# Altium integrated library Integrated_Library1b.IntLib: 1312 symbols (part 34 of 58)
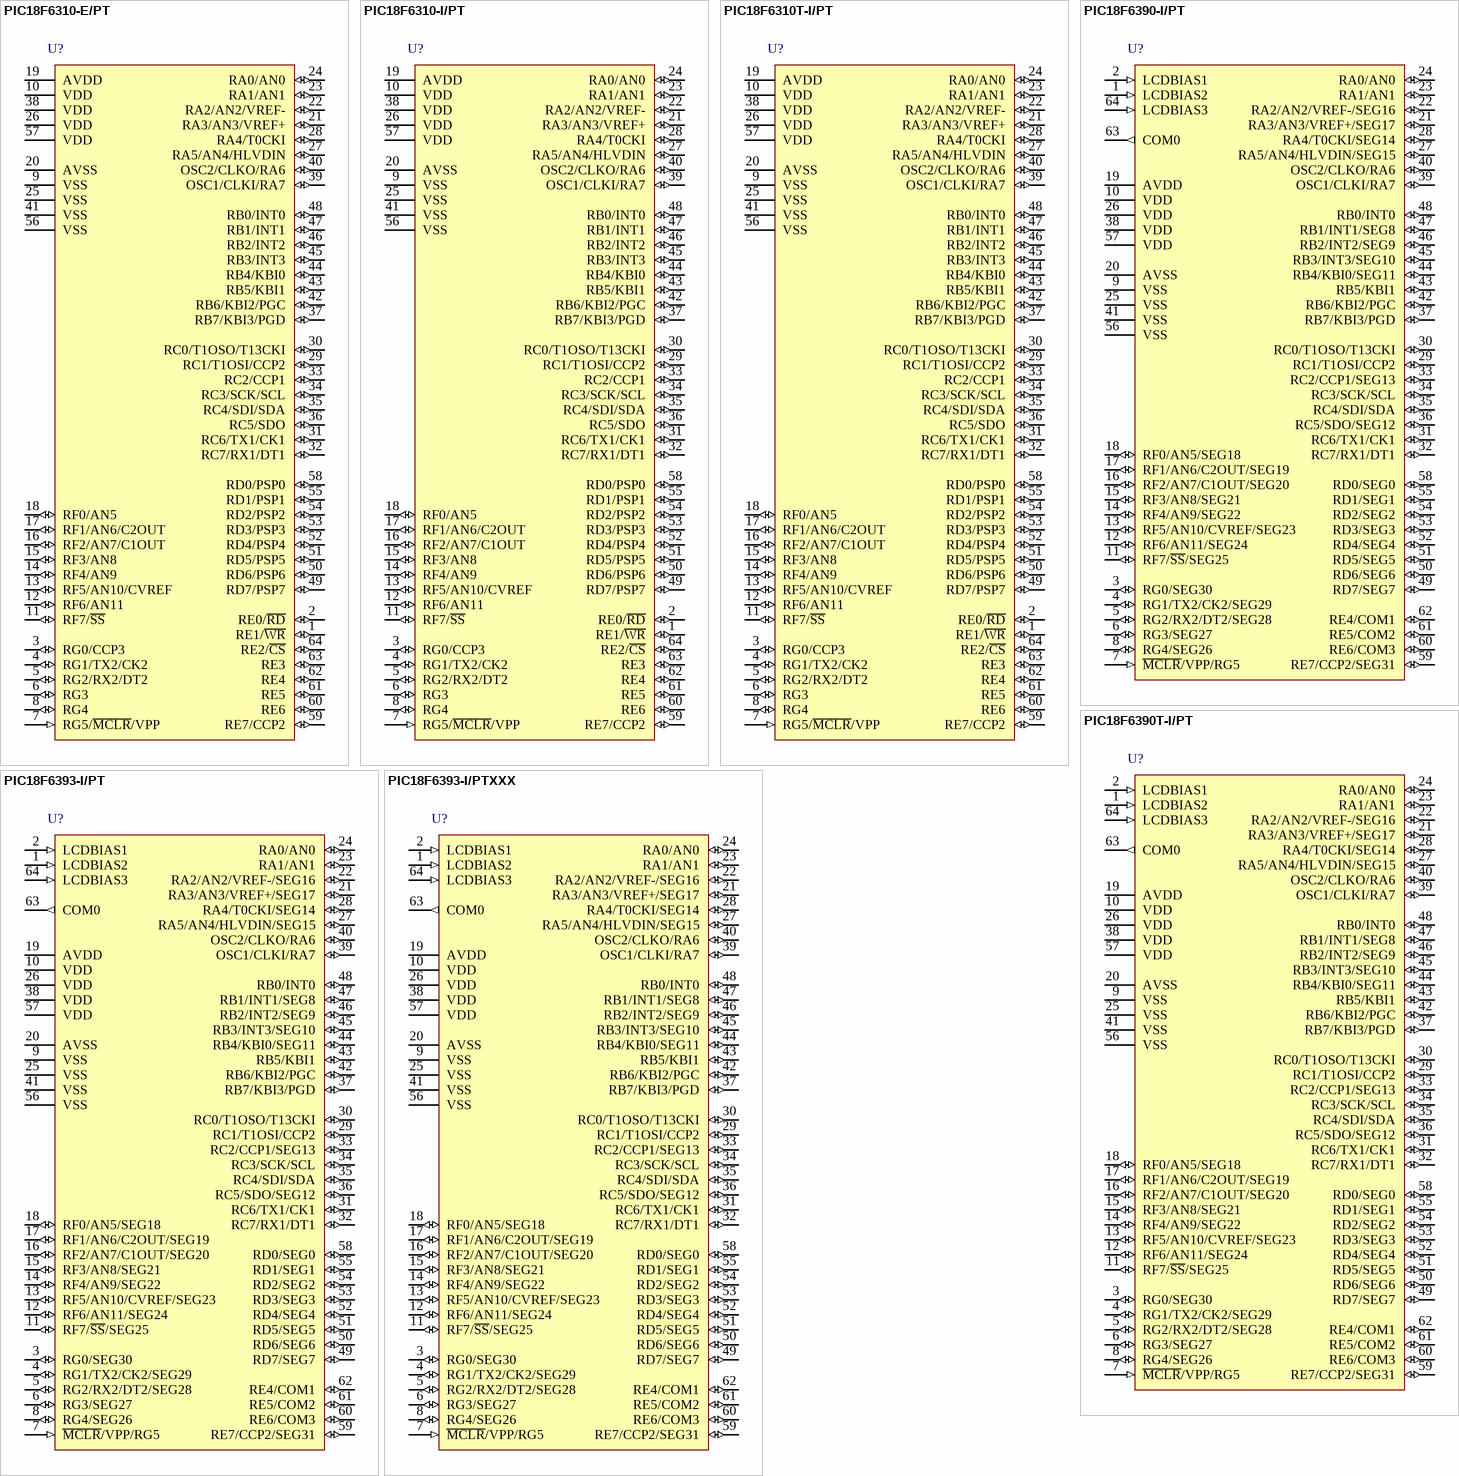
[diagram p182: symbols PIC18F6310-E/PT to PIC18F6393-I/PTXXX]

## PIC18F6310-E/PT
designator U?
Flash Microcontroller with nanoWatt Technology, 8K Flash, 64-Pin TQFP, Extended Temperature Range; FirstPublished: 29-Jan-2009; DatasheetVersion: revB, May-2007; PackageVersion: revBB, Aug-2009; PackageReference: TQFP-PT64; Publisher: Altium Limited; PackageDescription: 64-Lead Thin Plastic Quad Flat Pack (PT) - 10x10x1mm Body, 2.00mm [TQFP]; Supplier 1: Digi-Key; Supplier Part Number 1: PIC18F6310-E/PT-ND; Supplier 2: Newark; Supplier Part Number 2: 08J9636; Code_JEDEC: MS-026; ComponentLink1Description: Datasheet; ComponentLink1URL: http://ww1.microchip.com/downloads/en/DeviceDoc/39635b.pdf; ComponentLink2Description: Packaging Specification; ComponentLink2URL: http://www.microchip.com/stellent/groups/techpub_sg/documents/packagingspec/en012702.pdf; ComponentLink3Description: Microchip.com Home; ComponentLink3URL: http://www.microchip.com/
footprint TQFP-PT64_N (Thin QFP, 64-Leads, Body 10x10mm, Pitch 0.5mm, IPC Medium Density)
footprint TQFP-PT64_L (Thin QFP, 64-Leads, Body 10x10mm, Pitch 0.5mm, IPC High Density)
footprint TQFP-PT64_M (Thin QFP, 64-Leads, Body 10x10mm, Pitch 0.5mm, IPC Low Density)
pins: 1 RE1/~{WR} (io), 2 RE0/~{RD} (io), 3 RG0/CCP3 (io), 4 RG1/TX2/CK2 (io), 5 RG2/RX2/DT2 (io), 6 RG3 (io), 7 RG5/~{MCLR}/VPP (in), 8 RG4 (io), 9 VSS (power), 10 VDD (power), 11 RF7/~{SS} (io), 12 RF6/AN11 (io), 13 RF5/AN10/CVREF (io), 14 RF4/AN9 (io), 15 RF3/AN8 (io), 16 RF2/AN7/C1OUT (io), 17 RF1/AN6/C2OUT (io), 18 RF0/AN5 (io), 19 AVDD (power), 20 AVSS (power), 21 RA3/AN3/VREF+ (io), 22 RA2/AN2/VREF- (io), 23 RA1/AN1 (io), 24 RA0/AN0 (io), 25 VSS (power), 26 VDD (power), 27 RA5/AN4/HLVDIN (io), 28 RA4/T0CKI (io), 29 RC1/T1OSI/CCP2 (io), 30 RC0/T1OSO/T13CKI (io), 31 RC6/TX1/CK1 (io), 32 RC7/RX1/DT1 (io), 33 RC2/CCP1 (io), 34 RC3/SCK/SCL (io), 35 RC4/SDI/SDA (io), 36 RC5/SDO (io), 37 RB7/KBI3/PGD (io), 38 VDD (power), 39 OSC1/CLKI/RA7 (io), 40 OSC2/CLKO/RA6 (io), 41 VSS (power), 42 RB6/KBI2/PGC (io), 43 RB5/KBI1 (io), 44 RB4/KBI0 (io), 45 RB3/INT3 (io), 46 RB2/INT2 (io), 47 RB1/INT1 (io), 48 RB0/INT0 (io), 49 RD7/PSP7 (io), 50 RD6/PSP6 (io), 51 RD5/PSP5 (io), 52 RD4/PSP4 (io), 53 RD3/PSP3 (io), 54 RD2/PSP2 (io), 55 RD1/PSP1 (io), 56 VSS (power), 57 VDD (power), 58 RD0/PSP0 (io), 59 RE7/CCP2 (io), 60 RE6 (io), 61 RE5 (io), 62 RE4 (io), 63 RE3 (io), 64 RE2/~{CS} (io)

## PIC18F6310-I/PT
designator U?
Flash Microcontroller with nanoWatt Technology, 8K Flash, 64-Pin TQFP, Industrial Temperature Range; FirstPublished: 29-Jan-2009; DatasheetVersion: revB, May-2007; PackageVersion: revBB, Aug-2009; PackageReference: TQFP-PT64; Publisher: Altium Limited; PackageDescription: 64-Lead Thin Plastic Quad Flat Pack (PT) - 10x10x1mm Body, 2.00mm [TQFP]; Supplier 1: Digi-Key; Supplier Part Number 1: PIC18F6310-I/PT-ND; Supplier 2: Farnell; Supplier Part Number 2: 1332276; Supplier 3: Newark; Supplier Part Number 3: 08J9637; Code_JEDEC: MS-026; ComponentLink1Description: Datasheet; ComponentLink1URL: http://ww1.microchip.com/downloads/en/DeviceDoc/39635b.pdf; ComponentLink2Description: Packaging Specification; ComponentLink2URL: http://www.microchip.com/stellent/groups/techpub_sg/documents/packagingspec/en012702.pdf; ComponentLink3Description: Microchip.com Home; ComponentLink3URL: http://www.microchip.com/
footprint TQFP-PT64_N (Thin QFP, 64-Leads, Body 10x10mm, Pitch 0.5mm, IPC Medium Density)
footprint TQFP-PT64_L (Thin QFP, 64-Leads, Body 10x10mm, Pitch 0.5mm, IPC High Density)
footprint TQFP-PT64_M (Thin QFP, 64-Leads, Body 10x10mm, Pitch 0.5mm, IPC Low Density)
pins: 1 RE1/~{WR} (io), 2 RE0/~{RD} (io), 3 RG0/CCP3 (io), 4 RG1/TX2/CK2 (io), 5 RG2/RX2/DT2 (io), 6 RG3 (io), 7 RG5/~{MCLR}/VPP (in), 8 RG4 (io), 9 VSS (power), 10 VDD (power), 11 RF7/~{SS} (io), 12 RF6/AN11 (io), 13 RF5/AN10/CVREF (io), 14 RF4/AN9 (io), 15 RF3/AN8 (io), 16 RF2/AN7/C1OUT (io), 17 RF1/AN6/C2OUT (io), 18 RF0/AN5 (io), 19 AVDD (power), 20 AVSS (power), 21 RA3/AN3/VREF+ (io), 22 RA2/AN2/VREF- (io), 23 RA1/AN1 (io), 24 RA0/AN0 (io), 25 VSS (power), 26 VDD (power), 27 RA5/AN4/HLVDIN (io), 28 RA4/T0CKI (io), 29 RC1/T1OSI/CCP2 (io), 30 RC0/T1OSO/T13CKI (io), 31 RC6/TX1/CK1 (io), 32 RC7/RX1/DT1 (io), 33 RC2/CCP1 (io), 34 RC3/SCK/SCL (io), 35 RC4/SDI/SDA (io), 36 RC5/SDO (io), 37 RB7/KBI3/PGD (io), 38 VDD (power), 39 OSC1/CLKI/RA7 (io), 40 OSC2/CLKO/RA6 (io), 41 VSS (power), 42 RB6/KBI2/PGC (io), 43 RB5/KBI1 (io), 44 RB4/KBI0 (io), 45 RB3/INT3 (io), 46 RB2/INT2 (io), 47 RB1/INT1 (io), 48 RB0/INT0 (io), 49 RD7/PSP7 (io), 50 RD6/PSP6 (io), 51 RD5/PSP5 (io), 52 RD4/PSP4 (io), 53 RD3/PSP3 (io), 54 RD2/PSP2 (io), 55 RD1/PSP1 (io), 56 VSS (power), 57 VDD (power), 58 RD0/PSP0 (io), 59 RE7/CCP2 (io), 60 RE6 (io), 61 RE5 (io), 62 RE4 (io), 63 RE3 (io), 64 RE2/~{CS} (io)

## PIC18F6310T-I/PT
designator U?
Flash Microcontroller with nanoWatt Technology, 8K Flash, 64-Pin TQFP, Industrial Temperature Range, Tape and Reel; FirstPublished: 29-Jan-2009; DatasheetVersion: revB, May-2007; PackageVersion: revBB, Aug-2009; PackageReference: TQFP-PT64; Publisher: Altium Limited; PackageDescription: 64-Lead Thin Plastic Quad Flat Pack (PT) - 10x10x1mm Body, 2.00mm [TQFP]; Supplier 1: Digi-Key; Supplier Part Number 1: PIC18F6310T-I/PT-ND; Supplier 2: Newark; Supplier Part Number 2: 08J9638; Code_JEDEC: MS-026; ComponentLink1Description: Datasheet; ComponentLink1URL: http://ww1.microchip.com/downloads/en/DeviceDoc/39635b.pdf; ComponentLink2Description: Packaging Specification; ComponentLink2URL: http://www.microchip.com/stellent/groups/techpub_sg/documents/packagingspec/en012702.pdf; ComponentLink3Description: Microchip.com Home; ComponentLink3URL: http://www.microchip.com/
footprint TQFP-PT64_N (Thin QFP, 64-Leads, Body 10x10mm, Pitch 0.5mm, IPC Medium Density)
footprint TQFP-PT64_L (Thin QFP, 64-Leads, Body 10x10mm, Pitch 0.5mm, IPC High Density)
footprint TQFP-PT64_M (Thin QFP, 64-Leads, Body 10x10mm, Pitch 0.5mm, IPC Low Density)
pins: 1 RE1/~{WR} (io), 2 RE0/~{RD} (io), 3 RG0/CCP3 (io), 4 RG1/TX2/CK2 (io), 5 RG2/RX2/DT2 (io), 6 RG3 (io), 7 RG5/~{MCLR}/VPP (in), 8 RG4 (io), 9 VSS (power), 10 VDD (power), 11 RF7/~{SS} (io), 12 RF6/AN11 (io), 13 RF5/AN10/CVREF (io), 14 RF4/AN9 (io), 15 RF3/AN8 (io), 16 RF2/AN7/C1OUT (io), 17 RF1/AN6/C2OUT (io), 18 RF0/AN5 (io), 19 AVDD (power), 20 AVSS (power), 21 RA3/AN3/VREF+ (io), 22 RA2/AN2/VREF- (io), 23 RA1/AN1 (io), 24 RA0/AN0 (io), 25 VSS (power), 26 VDD (power), 27 RA5/AN4/HLVDIN (io), 28 RA4/T0CKI (io), 29 RC1/T1OSI/CCP2 (io), 30 RC0/T1OSO/T13CKI (io), 31 RC6/TX1/CK1 (io), 32 RC7/RX1/DT1 (io), 33 RC2/CCP1 (io), 34 RC3/SCK/SCL (io), 35 RC4/SDI/SDA (io), 36 RC5/SDO (io), 37 RB7/KBI3/PGD (io), 38 VDD (power), 39 OSC1/CLKI/RA7 (io), 40 OSC2/CLKO/RA6 (io), 41 VSS (power), 42 RB6/KBI2/PGC (io), 43 RB5/KBI1 (io), 44 RB4/KBI0 (io), 45 RB3/INT3 (io), 46 RB2/INT2 (io), 47 RB1/INT1 (io), 48 RB0/INT0 (io), 49 RD7/PSP7 (io), 50 RD6/PSP6 (io), 51 RD5/PSP5 (io), 52 RD4/PSP4 (io), 53 RD3/PSP3 (io), 54 RD2/PSP2 (io), 55 RD1/PSP1 (io), 56 VSS (power), 57 VDD (power), 58 RD0/PSP0 (io), 59 RE7/CCP2 (io), 60 RE6 (io), 61 RE5 (io), 62 RE4 (io), 63 RE3 (io), 64 RE2/~{CS} (io)

## PIC18F6390-I/PT
designator U?
Flash Microcontroller with LCD Driver and nanoWatt Technology, 8K Flash, 64-Pin TQFP, Industrial Temperature Range; FirstPublished: 29-Jan-2009; DatasheetVersion: revC, Nov-2007; PackageVersion: revBB, Aug-2009; PackageReference: TQFP-PT64; Publisher: Altium Limited; PackageDescription: 64-Lead Thin Plastic Quad Flat Pack (PT) - 10x10x1mm Body, 2.00mm [TQFP]; Supplier 1: Digi-Key; Supplier Part Number 1: PIC18F6390-I/PT-ND; Supplier 2: Farnell; Supplier Part Number 2: 1332277; Supplier 3: Newark; Supplier Part Number 3: 08J9640; Code_JEDEC: MS-026; ComponentLink1Description: Datasheet; ComponentLink1URL: http://ww1.microchip.com/downloads/en/DeviceDoc/39629c.pdf; ComponentLink2Description: Packaging Specification; ComponentLink2URL: http://www.microchip.com/stellent/groups/techpub_sg/documents/packagingspec/en012702.pdf; ComponentLink3Description: Microchip.com Home; ComponentLink3URL: http://www.microchip.com/
footprint TQFP-PT64_N (Thin QFP, 64-Leads, Body 10x10mm, Pitch 0.5mm, IPC Medium Density)
footprint TQFP-PT64_L (Thin QFP, 64-Leads, Body 10x10mm, Pitch 0.5mm, IPC High Density)
footprint TQFP-PT64_M (Thin QFP, 64-Leads, Body 10x10mm, Pitch 0.5mm, IPC Low Density)
pins: 1 LCDBIAS2 (in), 2 LCDBIAS1 (in), 3 RG0/SEG30 (io), 4 RG1/TX2/CK2/SEG29 (io), 5 RG2/RX2/DT2/SEG28 (io), 6 RG3/SEG27 (io), 7 ~{MCLR}/VPP/RG5 (in), 8 RG4/SEG26 (io), 9 VSS (power), 10 VDD (power), 11 RF7/~{SS}/SEG25 (io), 12 RF6/AN11/SEG24 (io), 13 RF5/AN10/CVREF/SEG23 (io), 14 RF4/AN9/SEG22 (io), 15 RF3/AN8/SEG21 (io), 16 RF2/AN7/C1OUT/SEG20 (io), 17 RF1/AN6/C2OUT/SEG19 (io), 18 RF0/AN5/SEG18 (io), 19 AVDD (power), 20 AVSS (power), 21 RA3/AN3/VREF+/SEG17 (io), 22 RA2/AN2/VREF-/SEG16 (io), 23 RA1/AN1 (io), 24 RA0/AN0 (io), 25 VSS (power), 26 VDD (power), 27 RA5/AN4/HLVDIN/SEG15 (io), 28 RA4/T0CKI/SEG14 (io), 29 RC1/T1OSI/CCP2 (io), 30 RC0/T1OSO/T13CKI (io), 31 RC6/TX1/CK1 (io), 32 RC7/RX1/DT1 (io), 33 RC2/CCP1/SEG13 (io), 34 RC3/SCK/SCL (io), 35 RC4/SDI/SDA (io), 36 RC5/SDO/SEG12 (io), 37 RB7/KBI3/PGD (io), 38 VDD (power), 39 OSC1/CLKI/RA7 (io), 40 OSC2/CLKO/RA6 (io), 41 VSS (power), 42 RB6/KBI2/PGC (io), 43 RB5/KBI1 (io), 44 RB4/KBI0/SEG11 (io), 45 RB3/INT3/SEG10 (io), 46 RB2/INT2/SEG9 (io), 47 RB1/INT1/SEG8 (io), 48 RB0/INT0 (io), 49 RD7/SEG7 (io), 50 RD6/SEG6 (io), 51 RD5/SEG5 (io), 52 RD4/SEG4 (io), 53 RD3/SEG3 (io), 54 RD2/SEG2 (io), 55 RD1/SEG1 (io), 56 VSS (power), 57 VDD (power), 58 RD0/SEG0 (io), 59 RE7/CCP2/SEG31 (io), 60 RE6/COM3 (io), 61 RE5/COM2 (io), 62 RE4/COM1 (io), 63 COM0 (out), 64 LCDBIAS3 (in)

## PIC18F6390T-I/PT
designator U?
Flash Microcontroller with LCD Driver and nanoWatt Technology, 8K Flash, 64-Pin TQFP, Industrial Temperature Range, Tape and Reel; FirstPublished: 29-Jan-2009; DatasheetVersion: revC, Nov-2007; PackageVersion: revBB, Aug-2009; PackageReference: TQFP-PT64; Publisher: Altium Limited; PackageDescription: 64-Lead Thin Plastic Quad Flat Pack (PT) - 10x10x1mm Body, 2.00mm [TQFP]; Supplier 1: Digi-Key; Supplier Part Number 1: PIC18F6390T-I/PT-ND; Supplier 2: Newark; Supplier Part Number 2: 08J9641; Code_JEDEC: MS-026; ComponentLink1Description: Datasheet; ComponentLink1URL: http://ww1.microchip.com/downloads/en/DeviceDoc/39629c.pdf; ComponentLink2Description: Packaging Specification; ComponentLink2URL: http://www.microchip.com/stellent/groups/techpub_sg/documents/packagingspec/en012702.pdf; ComponentLink3Description: Microchip.com Home; ComponentLink3URL: http://www.microchip.com/
footprint TQFP-PT64_N (Thin QFP, 64-Leads, Body 10x10mm, Pitch 0.5mm, IPC Medium Density)
footprint TQFP-PT64_L (Thin QFP, 64-Leads, Body 10x10mm, Pitch 0.5mm, IPC High Density)
footprint TQFP-PT64_M (Thin QFP, 64-Leads, Body 10x10mm, Pitch 0.5mm, IPC Low Density)
pins: 1 LCDBIAS2 (in), 2 LCDBIAS1 (in), 3 RG0/SEG30 (io), 4 RG1/TX2/CK2/SEG29 (io), 5 RG2/RX2/DT2/SEG28 (io), 6 RG3/SEG27 (io), 7 ~{MCLR}/VPP/RG5 (in), 8 RG4/SEG26 (io), 9 VSS (power), 10 VDD (power), 11 RF7/~{SS}/SEG25 (io), 12 RF6/AN11/SEG24 (io), 13 RF5/AN10/CVREF/SEG23 (io), 14 RF4/AN9/SEG22 (io), 15 RF3/AN8/SEG21 (io), 16 RF2/AN7/C1OUT/SEG20 (io), 17 RF1/AN6/C2OUT/SEG19 (io), 18 RF0/AN5/SEG18 (io), 19 AVDD (power), 20 AVSS (power), 21 RA3/AN3/VREF+/SEG17 (io), 22 RA2/AN2/VREF-/SEG16 (io), 23 RA1/AN1 (io), 24 RA0/AN0 (io), 25 VSS (power), 26 VDD (power), 27 RA5/AN4/HLVDIN/SEG15 (io), 28 RA4/T0CKI/SEG14 (io), 29 RC1/T1OSI/CCP2 (io), 30 RC0/T1OSO/T13CKI (io), 31 RC6/TX1/CK1 (io), 32 RC7/RX1/DT1 (io), 33 RC2/CCP1/SEG13 (io), 34 RC3/SCK/SCL (io), 35 RC4/SDI/SDA (io), 36 RC5/SDO/SEG12 (io), 37 RB7/KBI3/PGD (io), 38 VDD (power), 39 OSC1/CLKI/RA7 (io), 40 OSC2/CLKO/RA6 (io), 41 VSS (power), 42 RB6/KBI2/PGC (io), 43 RB5/KBI1 (io), 44 RB4/KBI0/SEG11 (io), 45 RB3/INT3/SEG10 (io), 46 RB2/INT2/SEG9 (io), 47 RB1/INT1/SEG8 (io), 48 RB0/INT0 (io), 49 RD7/SEG7 (io), 50 RD6/SEG6 (io), 51 RD5/SEG5 (io), 52 RD4/SEG4 (io), 53 RD3/SEG3 (io), 54 RD2/SEG2 (io), 55 RD1/SEG1 (io), 56 VSS (power), 57 VDD (power), 58 RD0/SEG0 (io), 59 RE7/CCP2/SEG31 (io), 60 RE6/COM3 (io), 61 RE5/COM2 (io), 62 RE4/COM1 (io), 63 COM0 (out), 64 LCDBIAS3 (in)

## PIC18F6393-I/PT
designator U?
High Performance, Flash Microcontroller with LCD Driver, 12-Bit ADC and nanoWatt Technology, 8K Flash, 64-Pin TQFP, Industrial Temperature Range; FirstPublished: 29-Jan-2009; LatestRevisionDate: 02-Dec-2009; LatestRevisionNote: Updated to datasheet revision B, Oct-2009; DatasheetVersion: revB, Oct-2009; PackageVersion: revBB, Aug-2009; PackageReference: TQFP-PT64; Publisher: Altium Limited; PackageDescription: 64-Lead Thin Plastic Quad Flat Pack (PT) - 10x10x1mm Body, 2.00mm [TQFP]; Supplier 1: Digi-Key; Supplier Part Number 1: PIC18F6393-I/PT-ND; Supplier 2: Farnell; Supplier Part Number 2: 1548418; Supplier 3: Newark; Supplier Part Number 3: 54M5029; Code_JEDEC: MS-026; ComponentLink1Description: Datasheet; ComponentLink1URL: http://ww1.microchip.com/downloads/en/DeviceDoc/39896b.pdf; ComponentLink2Description: Packaging Specification; ComponentLink2URL: http://www.microchip.com/stellent/groups/techpub_sg/documents/packagingspec/en012702.pdf; ComponentLink3Description: Microchip.com Home; ComponentLink3URL: http://www.microchip.com/
footprint TQFP-PT64_N (Thin QFP, 64-Leads, Body 10x10mm, Pitch 0.5mm, IPC Medium Density)
footprint TQFP-PT64_L (Thin QFP, 64-Leads, Body 10x10mm, Pitch 0.5mm, IPC High Density)
footprint TQFP-PT64_M (Thin QFP, 64-Leads, Body 10x10mm, Pitch 0.5mm, IPC Low Density)
pins: 1 LCDBIAS2 (in), 2 LCDBIAS1 (in), 3 RG0/SEG30 (io), 4 RG1/TX2/CK2/SEG29 (io), 5 RG2/RX2/DT2/SEG28 (io), 6 RG3/SEG27 (io), 7 ~{MCLR}/VPP/RG5 (in), 8 RG4/SEG26 (io), 9 VSS (power), 10 VDD (power), 11 RF7/~{SS}/SEG25 (io), 12 RF6/AN11/SEG24 (io), 13 RF5/AN10/CVREF/SEG23 (io), 14 RF4/AN9/SEG22 (io), 15 RF3/AN8/SEG21 (io), 16 RF2/AN7/C1OUT/SEG20 (io), 17 RF1/AN6/C2OUT/SEG19 (io), 18 RF0/AN5/SEG18 (io), 19 AVDD (power), 20 AVSS (power), 21 RA3/AN3/VREF+/SEG17 (io), 22 RA2/AN2/VREF-/SEG16 (io), 23 RA1/AN1 (io), 24 RA0/AN0 (io), 25 VSS (power), 26 VDD (power), 27 RA5/AN4/HLVDIN/SEG15 (io), 28 RA4/T0CKI/SEG14 (io), 29 RC1/T1OSI/CCP2 (io), 30 RC0/T1OSO/T13CKI (io), 31 RC6/TX1/CK1 (io), 32 RC7/RX1/DT1 (io), 33 RC2/CCP1/SEG13 (io), 34 RC3/SCK/SCL (io), 35 RC4/SDI/SDA (io), 36 RC5/SDO/SEG12 (io), 37 RB7/KBI3/PGD (io), 38 VDD (power), 39 OSC1/CLKI/RA7 (io), 40 OSC2/CLKO/RA6 (io), 41 VSS (power), 42 RB6/KBI2/PGC (io), 43 RB5/KBI1 (io), 44 RB4/KBI0/SEG11 (io), 45 RB3/INT3/SEG10 (io), 46 RB2/INT2/SEG9 (io), 47 RB1/INT1/SEG8 (io), 48 RB0/INT0 (io), 49 RD7/SEG7 (io), 50 RD6/SEG6 (io), 51 RD5/SEG5 (io), 52 RD4/SEG4 (io), 53 RD3/SEG3 (io), 54 RD2/SEG2 (io), 55 RD1/SEG1 (io), 56 VSS (power), 57 VDD (power), 58 RD0/SEG0 (io), 59 RE7/CCP2/SEG31 (io), 60 RE6/COM3 (io), 61 RE5/COM2 (io), 62 RE4/COM1 (io), 63 COM0 (out), 64 LCDBIAS3 (in)

## PIC18F6393-I/PTXXX
designator U?
High Performance, Flash Microcontroller with LCD Driver, 12-Bit ADC and nanoWatt Technology, 8K Flash, 64-Pin TQFP, Industrial Temperature Range; ComponentAvailability: Unknown. Contact manufacturer to determine status.; FirstPublished: 29-Jan-2009; LatestRevisionDate: 02-Dec-2009; LatestRevisionNote: Updated to datasheet revision B, Oct-2009; DatasheetVersion: revB, Oct-2009; PackageVersion: revBB, Aug-2009; PackageReference: TQFP-PT64; Publisher: Altium Limited; PackageDescription: 64-Lead Thin Plastic Quad Flat Pack (PT) - 10x10x1mm Body, 2.00mm [TQFP]; Code_JEDEC: MS-026; ComponentLink1Description: Datasheet; ComponentLink1URL: http://ww1.microchip.com/downloads/en/DeviceDoc/39896b.pdf; ComponentLink2Description: Packaging Specification; ComponentLink2URL: http://www.microchip.com/stellent/groups/techpub_sg/documents/packagingspec/en012702.pdf; ComponentLink3Description: Microchip.com Home; ComponentLink3URL: http://www.microchip.com/
footprint TQFP-PT64_N (Thin QFP, 64-Leads, Body 10x10mm, Pitch 0.5mm, IPC Medium Density)
footprint TQFP-PT64_L (Thin QFP, 64-Leads, Body 10x10mm, Pitch 0.5mm, IPC High Density)
footprint TQFP-PT64_M (Thin QFP, 64-Leads, Body 10x10mm, Pitch 0.5mm, IPC Low Density)
pins: 1 LCDBIAS2 (in), 2 LCDBIAS1 (in), 3 RG0/SEG30 (io), 4 RG1/TX2/CK2/SEG29 (io), 5 RG2/RX2/DT2/SEG28 (io), 6 RG3/SEG27 (io), 7 ~{MCLR}/VPP/RG5 (in), 8 RG4/SEG26 (io), 9 VSS (power), 10 VDD (power), 11 RF7/~{SS}/SEG25 (io), 12 RF6/AN11/SEG24 (io), 13 RF5/AN10/CVREF/SEG23 (io), 14 RF4/AN9/SEG22 (io), 15 RF3/AN8/SEG21 (io), 16 RF2/AN7/C1OUT/SEG20 (io), 17 RF1/AN6/C2OUT/SEG19 (io), 18 RF0/AN5/SEG18 (io), 19 AVDD (power), 20 AVSS (power), 21 RA3/AN3/VREF+/SEG17 (io), 22 RA2/AN2/VREF-/SEG16 (io), 23 RA1/AN1 (io), 24 RA0/AN0 (io), 25 VSS (power), 26 VDD (power), 27 RA5/AN4/HLVDIN/SEG15 (io), 28 RA4/T0CKI/SEG14 (io), 29 RC1/T1OSI/CCP2 (io), 30 RC0/T1OSO/T13CKI (io), 31 RC6/TX1/CK1 (io), 32 RC7/RX1/DT1 (io), 33 RC2/CCP1/SEG13 (io), 34 RC3/SCK/SCL (io), 35 RC4/SDI/SDA (io), 36 RC5/SDO/SEG12 (io), 37 RB7/KBI3/PGD (io), 38 VDD (power), 39 OSC1/CLKI/RA7 (io), 40 OSC2/CLKO/RA6 (io), 41 VSS (power), 42 RB6/KBI2/PGC (io), 43 RB5/KBI1 (io), 44 RB4/KBI0/SEG11 (io), 45 RB3/INT3/SEG10 (io), 46 RB2/INT2/SEG9 (io), 47 RB1/INT1/SEG8 (io), 48 RB0/INT0 (io), 49 RD7/SEG7 (io), 50 RD6/SEG6 (io), 51 RD5/SEG5 (io), 52 RD4/SEG4 (io), 53 RD3/SEG3 (io), 54 RD2/SEG2 (io), 55 RD1/SEG1 (io), 56 VSS (power), 57 VDD (power), 58 RD0/SEG0 (io), 59 RE7/CCP2/SEG31 (io), 60 RE6/COM3 (io), 61 RE5/COM2 (io), 62 RE4/COM1 (io), 63 COM0 (out), 64 LCDBIAS3 (in)

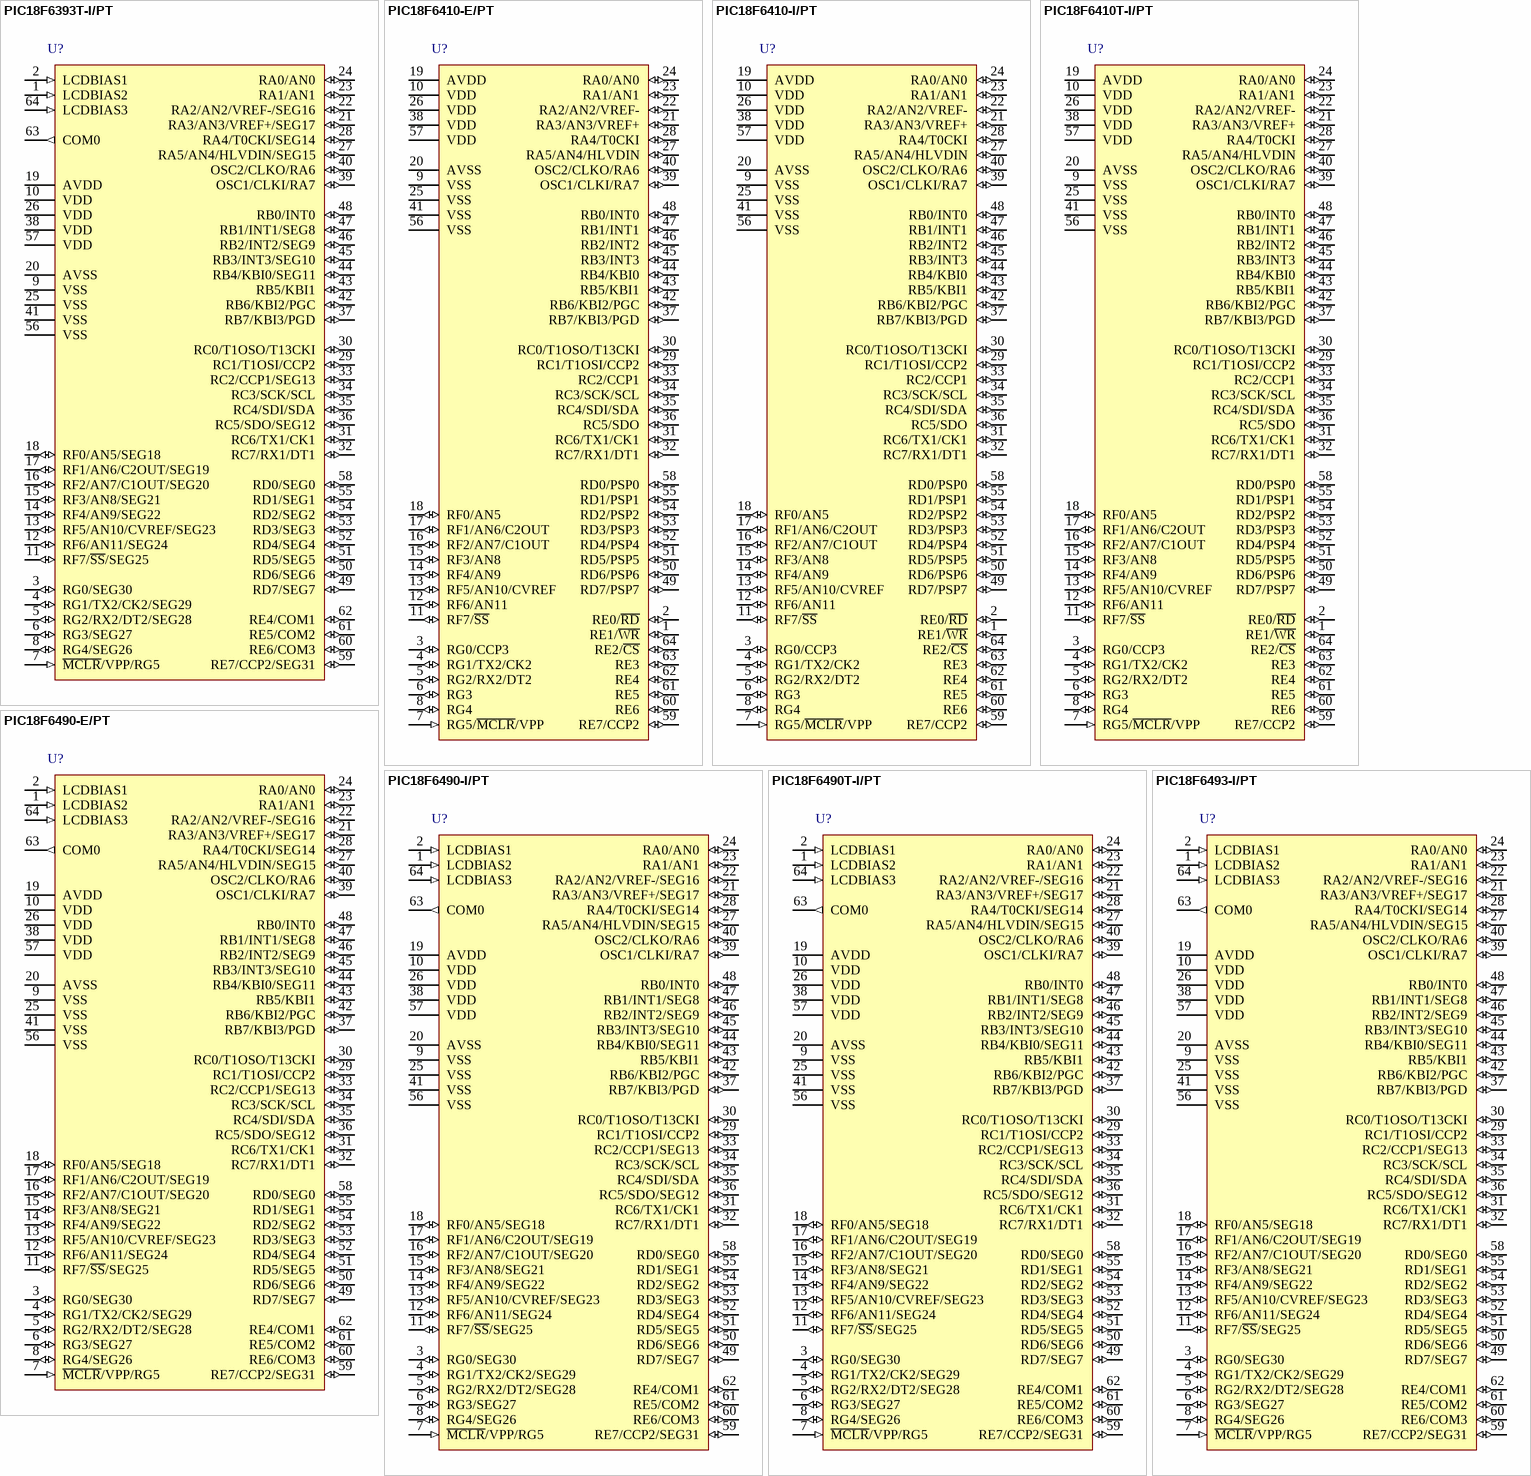
[diagram p84: symbols PIC18F6393T-I/PT to PIC18F6493-I/PT]

## PIC18F6393T-I/PT
designator U?
High Performance, Flash Microcontroller with LCD Driver, 12-Bit ADC and nanoWatt Technology, 8K Flash, 64-Pin TQFP, Industrial Temperature Range, Tape and Reel; FirstPublished: 29-Jan-2009; LatestRevisionDate: 02-Dec-2009; LatestRevisionNote: Updated to datasheet revision B, Oct-2009; DatasheetVersion: revB, Oct-2009; PackageVersion: revBB, Aug-2009; PackageReference: TQFP-PT64; Publisher: Altium Limited; PackageDescription: 64-Lead Thin Plastic Quad Flat Pack (PT) - 10x10x1mm Body, 2.00mm [TQFP]; Supplier 1: Digi-Key; Supplier Part Number 1: PIC18F6393T-I/PTTR-ND; Supplier 2: Newark; Supplier Part Number 2: 54M5030; Code_JEDEC: MS-026; ComponentLink1Description: Datasheet; ComponentLink1URL: http://ww1.microchip.com/downloads/en/DeviceDoc/39896b.pdf; ComponentLink2Description: Packaging Specification; ComponentLink2URL: http://www.microchip.com/stellent/groups/techpub_sg/documents/packagingspec/en012702.pdf; ComponentLink3Description: Microchip.com Home; ComponentLink3URL: http://www.microchip.com/
footprint TQFP-PT64_N (Thin QFP, 64-Leads, Body 10x10mm, Pitch 0.5mm, IPC Medium Density)
footprint TQFP-PT64_L (Thin QFP, 64-Leads, Body 10x10mm, Pitch 0.5mm, IPC High Density)
footprint TQFP-PT64_M (Thin QFP, 64-Leads, Body 10x10mm, Pitch 0.5mm, IPC Low Density)
pins: 1 LCDBIAS2 (in), 2 LCDBIAS1 (in), 3 RG0/SEG30 (io), 4 RG1/TX2/CK2/SEG29 (io), 5 RG2/RX2/DT2/SEG28 (io), 6 RG3/SEG27 (io), 7 ~{MCLR}/VPP/RG5 (in), 8 RG4/SEG26 (io), 9 VSS (power), 10 VDD (power), 11 RF7/~{SS}/SEG25 (io), 12 RF6/AN11/SEG24 (io), 13 RF5/AN10/CVREF/SEG23 (io), 14 RF4/AN9/SEG22 (io), 15 RF3/AN8/SEG21 (io), 16 RF2/AN7/C1OUT/SEG20 (io), 17 RF1/AN6/C2OUT/SEG19 (io), 18 RF0/AN5/SEG18 (io), 19 AVDD (power), 20 AVSS (power), 21 RA3/AN3/VREF+/SEG17 (io), 22 RA2/AN2/VREF-/SEG16 (io), 23 RA1/AN1 (io), 24 RA0/AN0 (io), 25 VSS (power), 26 VDD (power), 27 RA5/AN4/HLVDIN/SEG15 (io), 28 RA4/T0CKI/SEG14 (io), 29 RC1/T1OSI/CCP2 (io), 30 RC0/T1OSO/T13CKI (io), 31 RC6/TX1/CK1 (io), 32 RC7/RX1/DT1 (io), 33 RC2/CCP1/SEG13 (io), 34 RC3/SCK/SCL (io), 35 RC4/SDI/SDA (io), 36 RC5/SDO/SEG12 (io), 37 RB7/KBI3/PGD (io), 38 VDD (power), 39 OSC1/CLKI/RA7 (io), 40 OSC2/CLKO/RA6 (io), 41 VSS (power), 42 RB6/KBI2/PGC (io), 43 RB5/KBI1 (io), 44 RB4/KBI0/SEG11 (io), 45 RB3/INT3/SEG10 (io), 46 RB2/INT2/SEG9 (io), 47 RB1/INT1/SEG8 (io), 48 RB0/INT0 (io), 49 RD7/SEG7 (io), 50 RD6/SEG6 (io), 51 RD5/SEG5 (io), 52 RD4/SEG4 (io), 53 RD3/SEG3 (io), 54 RD2/SEG2 (io), 55 RD1/SEG1 (io), 56 VSS (power), 57 VDD (power), 58 RD0/SEG0 (io), 59 RE7/CCP2/SEG31 (io), 60 RE6/COM3 (io), 61 RE5/COM2 (io), 62 RE4/COM1 (io), 63 COM0 (out), 64 LCDBIAS3 (in)

## PIC18F6410-E/PT
designator U?
Flash Microcontroller with nanoWatt Technology, 16K Flash, 64-Pin TQFP, Extended Temperature Range; FirstPublished: 29-Jan-2009; DatasheetVersion: revB, May-2007; PackageVersion: revBB, Aug-2009; PackageReference: TQFP-PT64; Publisher: Altium Limited; PackageDescription: 64-Lead Thin Plastic Quad Flat Pack (PT) - 10x10x1mm Body, 2.00mm [TQFP]; Supplier 1: Digi-Key; Supplier Part Number 1: PIC18F6410-E/PT-ND; Supplier 2: Newark; Supplier Part Number 2: 08J9642; Code_JEDEC: MS-026; ComponentLink1Description: Datasheet; ComponentLink1URL: http://ww1.microchip.com/downloads/en/DeviceDoc/39635b.pdf; ComponentLink2Description: Packaging Specification; ComponentLink2URL: http://www.microchip.com/stellent/groups/techpub_sg/documents/packagingspec/en012702.pdf; ComponentLink3Description: Microchip.com Home; ComponentLink3URL: http://www.microchip.com/
footprint TQFP-PT64_N (Thin QFP, 64-Leads, Body 10x10mm, Pitch 0.5mm, IPC Medium Density)
footprint TQFP-PT64_L (Thin QFP, 64-Leads, Body 10x10mm, Pitch 0.5mm, IPC High Density)
footprint TQFP-PT64_M (Thin QFP, 64-Leads, Body 10x10mm, Pitch 0.5mm, IPC Low Density)
pins: 1 RE1/~{WR} (io), 2 RE0/~{RD} (io), 3 RG0/CCP3 (io), 4 RG1/TX2/CK2 (io), 5 RG2/RX2/DT2 (io), 6 RG3 (io), 7 RG5/~{MCLR}/VPP (in), 8 RG4 (io), 9 VSS (power), 10 VDD (power), 11 RF7/~{SS} (io), 12 RF6/AN11 (io), 13 RF5/AN10/CVREF (io), 14 RF4/AN9 (io), 15 RF3/AN8 (io), 16 RF2/AN7/C1OUT (io), 17 RF1/AN6/C2OUT (io), 18 RF0/AN5 (io), 19 AVDD (power), 20 AVSS (power), 21 RA3/AN3/VREF+ (io), 22 RA2/AN2/VREF- (io), 23 RA1/AN1 (io), 24 RA0/AN0 (io), 25 VSS (power), 26 VDD (power), 27 RA5/AN4/HLVDIN (io), 28 RA4/T0CKI (io), 29 RC1/T1OSI/CCP2 (io), 30 RC0/T1OSO/T13CKI (io), 31 RC6/TX1/CK1 (io), 32 RC7/RX1/DT1 (io), 33 RC2/CCP1 (io), 34 RC3/SCK/SCL (io), 35 RC4/SDI/SDA (io), 36 RC5/SDO (io), 37 RB7/KBI3/PGD (io), 38 VDD (power), 39 OSC1/CLKI/RA7 (io), 40 OSC2/CLKO/RA6 (io), 41 VSS (power), 42 RB6/KBI2/PGC (io), 43 RB5/KBI1 (io), 44 RB4/KBI0 (io), 45 RB3/INT3 (io), 46 RB2/INT2 (io), 47 RB1/INT1 (io), 48 RB0/INT0 (io), 49 RD7/PSP7 (io), 50 RD6/PSP6 (io), 51 RD5/PSP5 (io), 52 RD4/PSP4 (io), 53 RD3/PSP3 (io), 54 RD2/PSP2 (io), 55 RD1/PSP1 (io), 56 VSS (power), 57 VDD (power), 58 RD0/PSP0 (io), 59 RE7/CCP2 (io), 60 RE6 (io), 61 RE5 (io), 62 RE4 (io), 63 RE3 (io), 64 RE2/~{CS} (io)

## PIC18F6410-I/PT
designator U?
Flash Microcontroller with nanoWatt Technology, 16K Flash, 64-Pin TQFP, Industrial Temperature Range; FirstPublished: 29-Jan-2009; DatasheetVersion: revB, May-2007; PackageVersion: revBB, Aug-2009; PackageReference: TQFP-PT64; Publisher: Altium Limited; PackageDescription: 64-Lead Thin Plastic Quad Flat Pack (PT) - 10x10x1mm Body, 2.00mm [TQFP]; Supplier 1: Digi-Key; Supplier Part Number 1: PIC18F6410-I/PT-ND; Supplier 2: Farnell; Supplier Part Number 2: 121271905; Supplier 3: Farnell; Supplier Part Number 3: 1212719; Supplier 4: Farnell; Supplier Part Number 4: 1528366; Supplier 5: Newark; Supplier Part Number 5: 08J9643; Code_JEDEC: MS-026; ComponentLink1Description: Datasheet; ComponentLink1URL: http://ww1.microchip.com/downloads/en/DeviceDoc/39635b.pdf; ComponentLink2Description: Packaging Specification; ComponentLink2URL: http://www.microchip.com/stellent/groups/techpub_sg/documents/packagingspec/en012702.pdf; ComponentLink3Description: Microchip.com Home; ComponentLink3URL: http://www.microchip.com/
footprint TQFP-PT64_N (Thin QFP, 64-Leads, Body 10x10mm, Pitch 0.5mm, IPC Medium Density)
footprint TQFP-PT64_L (Thin QFP, 64-Leads, Body 10x10mm, Pitch 0.5mm, IPC High Density)
footprint TQFP-PT64_M (Thin QFP, 64-Leads, Body 10x10mm, Pitch 0.5mm, IPC Low Density)
pins: 1 RE1/~{WR} (io), 2 RE0/~{RD} (io), 3 RG0/CCP3 (io), 4 RG1/TX2/CK2 (io), 5 RG2/RX2/DT2 (io), 6 RG3 (io), 7 RG5/~{MCLR}/VPP (in), 8 RG4 (io), 9 VSS (power), 10 VDD (power), 11 RF7/~{SS} (io), 12 RF6/AN11 (io), 13 RF5/AN10/CVREF (io), 14 RF4/AN9 (io), 15 RF3/AN8 (io), 16 RF2/AN7/C1OUT (io), 17 RF1/AN6/C2OUT (io), 18 RF0/AN5 (io), 19 AVDD (power), 20 AVSS (power), 21 RA3/AN3/VREF+ (io), 22 RA2/AN2/VREF- (io), 23 RA1/AN1 (io), 24 RA0/AN0 (io), 25 VSS (power), 26 VDD (power), 27 RA5/AN4/HLVDIN (io), 28 RA4/T0CKI (io), 29 RC1/T1OSI/CCP2 (io), 30 RC0/T1OSO/T13CKI (io), 31 RC6/TX1/CK1 (io), 32 RC7/RX1/DT1 (io), 33 RC2/CCP1 (io), 34 RC3/SCK/SCL (io), 35 RC4/SDI/SDA (io), 36 RC5/SDO (io), 37 RB7/KBI3/PGD (io), 38 VDD (power), 39 OSC1/CLKI/RA7 (io), 40 OSC2/CLKO/RA6 (io), 41 VSS (power), 42 RB6/KBI2/PGC (io), 43 RB5/KBI1 (io), 44 RB4/KBI0 (io), 45 RB3/INT3 (io), 46 RB2/INT2 (io), 47 RB1/INT1 (io), 48 RB0/INT0 (io), 49 RD7/PSP7 (io), 50 RD6/PSP6 (io), 51 RD5/PSP5 (io), 52 RD4/PSP4 (io), 53 RD3/PSP3 (io), 54 RD2/PSP2 (io), 55 RD1/PSP1 (io), 56 VSS (power), 57 VDD (power), 58 RD0/PSP0 (io), 59 RE7/CCP2 (io), 60 RE6 (io), 61 RE5 (io), 62 RE4 (io), 63 RE3 (io), 64 RE2/~{CS} (io)

## PIC18F6410T-I/PT
designator U?
Flash Microcontroller with nanoWatt Technology, 16K Flash, 64-Pin TQFP, Industrial Temperature Range, Tape and Reel; FirstPublished: 29-Jan-2009; DatasheetVersion: revB, May-2007; PackageVersion: revBB, Aug-2009; PackageReference: TQFP-PT64; Publisher: Altium Limited; PackageDescription: 64-Lead Thin Plastic Quad Flat Pack (PT) - 10x10x1mm Body, 2.00mm [TQFP]; Supplier 1: Digi-Key; Supplier Part Number 1: PIC18F6410T-I/PT-ND; Supplier 2: Newark; Supplier Part Number 2: 08J9644; Code_JEDEC: MS-026; ComponentLink1Description: Datasheet; ComponentLink1URL: http://ww1.microchip.com/downloads/en/DeviceDoc/39635b.pdf; ComponentLink2Description: Packaging Specification; ComponentLink2URL: http://www.microchip.com/stellent/groups/techpub_sg/documents/packagingspec/en012702.pdf; ComponentLink3Description: Microchip.com Home; ComponentLink3URL: http://www.microchip.com/
footprint TQFP-PT64_N (Thin QFP, 64-Leads, Body 10x10mm, Pitch 0.5mm, IPC Medium Density)
footprint TQFP-PT64_L (Thin QFP, 64-Leads, Body 10x10mm, Pitch 0.5mm, IPC High Density)
footprint TQFP-PT64_M (Thin QFP, 64-Leads, Body 10x10mm, Pitch 0.5mm, IPC Low Density)
pins: 1 RE1/~{WR} (io), 2 RE0/~{RD} (io), 3 RG0/CCP3 (io), 4 RG1/TX2/CK2 (io), 5 RG2/RX2/DT2 (io), 6 RG3 (io), 7 RG5/~{MCLR}/VPP (in), 8 RG4 (io), 9 VSS (power), 10 VDD (power), 11 RF7/~{SS} (io), 12 RF6/AN11 (io), 13 RF5/AN10/CVREF (io), 14 RF4/AN9 (io), 15 RF3/AN8 (io), 16 RF2/AN7/C1OUT (io), 17 RF1/AN6/C2OUT (io), 18 RF0/AN5 (io), 19 AVDD (power), 20 AVSS (power), 21 RA3/AN3/VREF+ (io), 22 RA2/AN2/VREF- (io), 23 RA1/AN1 (io), 24 RA0/AN0 (io), 25 VSS (power), 26 VDD (power), 27 RA5/AN4/HLVDIN (io), 28 RA4/T0CKI (io), 29 RC1/T1OSI/CCP2 (io), 30 RC0/T1OSO/T13CKI (io), 31 RC6/TX1/CK1 (io), 32 RC7/RX1/DT1 (io), 33 RC2/CCP1 (io), 34 RC3/SCK/SCL (io), 35 RC4/SDI/SDA (io), 36 RC5/SDO (io), 37 RB7/KBI3/PGD (io), 38 VDD (power), 39 OSC1/CLKI/RA7 (io), 40 OSC2/CLKO/RA6 (io), 41 VSS (power), 42 RB6/KBI2/PGC (io), 43 RB5/KBI1 (io), 44 RB4/KBI0 (io), 45 RB3/INT3 (io), 46 RB2/INT2 (io), 47 RB1/INT1 (io), 48 RB0/INT0 (io), 49 RD7/PSP7 (io), 50 RD6/PSP6 (io), 51 RD5/PSP5 (io), 52 RD4/PSP4 (io), 53 RD3/PSP3 (io), 54 RD2/PSP2 (io), 55 RD1/PSP1 (io), 56 VSS (power), 57 VDD (power), 58 RD0/PSP0 (io), 59 RE7/CCP2 (io), 60 RE6 (io), 61 RE5 (io), 62 RE4 (io), 63 RE3 (io), 64 RE2/~{CS} (io)

## PIC18F6490-E/PT
designator U?
Flash Microcontroller with LCD Driver and nanoWatt Technology, 16K Flash, 64-Pin TQFP, Extended Temperature Range; FirstPublished: 29-Jan-2009; DatasheetVersion: revC, Nov-2007; PackageVersion: revBB, Aug-2009; PackageReference: TQFP-PT64; Publisher: Altium Limited; PackageDescription: 64-Lead Thin Plastic Quad Flat Pack (PT) - 10x10x1mm Body, 2.00mm [TQFP]; Supplier 1: Digi-Key; Supplier Part Number 1: PIC18F6490-E/PT-ND; Supplier 2: Newark; Supplier Part Number 2: 08J9645; Code_JEDEC: MS-026; ComponentLink1Description: Datasheet; ComponentLink1URL: http://ww1.microchip.com/downloads/en/DeviceDoc/39629c.pdf; ComponentLink2Description: Packaging Specification; ComponentLink2URL: http://www.microchip.com/stellent/groups/techpub_sg/documents/packagingspec/en012702.pdf; ComponentLink3Description: Microchip.com Home; ComponentLink3URL: http://www.microchip.com/
footprint TQFP-PT64_N (Thin QFP, 64-Leads, Body 10x10mm, Pitch 0.5mm, IPC Medium Density)
footprint TQFP-PT64_L (Thin QFP, 64-Leads, Body 10x10mm, Pitch 0.5mm, IPC High Density)
footprint TQFP-PT64_M (Thin QFP, 64-Leads, Body 10x10mm, Pitch 0.5mm, IPC Low Density)
pins: 1 LCDBIAS2 (in), 2 LCDBIAS1 (in), 3 RG0/SEG30 (io), 4 RG1/TX2/CK2/SEG29 (io), 5 RG2/RX2/DT2/SEG28 (io), 6 RG3/SEG27 (io), 7 ~{MCLR}/VPP/RG5 (in), 8 RG4/SEG26 (io), 9 VSS (power), 10 VDD (power), 11 RF7/~{SS}/SEG25 (io), 12 RF6/AN11/SEG24 (io), 13 RF5/AN10/CVREF/SEG23 (io), 14 RF4/AN9/SEG22 (io), 15 RF3/AN8/SEG21 (io), 16 RF2/AN7/C1OUT/SEG20 (io), 17 RF1/AN6/C2OUT/SEG19 (io), 18 RF0/AN5/SEG18 (io), 19 AVDD (power), 20 AVSS (power), 21 RA3/AN3/VREF+/SEG17 (io), 22 RA2/AN2/VREF-/SEG16 (io), 23 RA1/AN1 (io), 24 RA0/AN0 (io), 25 VSS (power), 26 VDD (power), 27 RA5/AN4/HLVDIN/SEG15 (io), 28 RA4/T0CKI/SEG14 (io), 29 RC1/T1OSI/CCP2 (io), 30 RC0/T1OSO/T13CKI (io), 31 RC6/TX1/CK1 (io), 32 RC7/RX1/DT1 (io), 33 RC2/CCP1/SEG13 (io), 34 RC3/SCK/SCL (io), 35 RC4/SDI/SDA (io), 36 RC5/SDO/SEG12 (io), 37 RB7/KBI3/PGD (io), 38 VDD (power), 39 OSC1/CLKI/RA7 (io), 40 OSC2/CLKO/RA6 (io), 41 VSS (power), 42 RB6/KBI2/PGC (io), 43 RB5/KBI1 (io), 44 RB4/KBI0/SEG11 (io), 45 RB3/INT3/SEG10 (io), 46 RB2/INT2/SEG9 (io), 47 RB1/INT1/SEG8 (io), 48 RB0/INT0 (io), 49 RD7/SEG7 (io), 50 RD6/SEG6 (io), 51 RD5/SEG5 (io), 52 RD4/SEG4 (io), 53 RD3/SEG3 (io), 54 RD2/SEG2 (io), 55 RD1/SEG1 (io), 56 VSS (power), 57 VDD (power), 58 RD0/SEG0 (io), 59 RE7/CCP2/SEG31 (io), 60 RE6/COM3 (io), 61 RE5/COM2 (io), 62 RE4/COM1 (io), 63 COM0 (out), 64 LCDBIAS3 (in)

## PIC18F6490-I/PT
designator U?
Flash Microcontroller with LCD Driver and nanoWatt Technology, 16K Flash, 64-Pin TQFP, Industrial Temperature Range; FirstPublished: 29-Jan-2009; DatasheetVersion: revC, Nov-2007; PackageVersion: revBB, Aug-2009; PackageReference: TQFP-PT64; Publisher: Altium Limited; PackageDescription: 64-Lead Thin Plastic Quad Flat Pack (PT) - 10x10x1mm Body, 2.00mm [TQFP]; Supplier 1: Digi-Key; Supplier Part Number 1: PIC18F6490-I/PT-ND; Supplier 2: Farnell; Supplier Part Number 2: 1332278; Supplier 3: Newark; Supplier Part Number 3: 08J9646; Code_JEDEC: MS-026; ComponentLink1Description: Datasheet; ComponentLink1URL: http://ww1.microchip.com/downloads/en/DeviceDoc/39629c.pdf; ComponentLink2Description: Packaging Specification; ComponentLink2URL: http://www.microchip.com/stellent/groups/techpub_sg/documents/packagingspec/en012702.pdf; ComponentLink3Description: Microchip.com Home; ComponentLink3URL: http://www.microchip.com/
footprint TQFP-PT64_N (Thin QFP, 64-Leads, Body 10x10mm, Pitch 0.5mm, IPC Medium Density)
footprint TQFP-PT64_L (Thin QFP, 64-Leads, Body 10x10mm, Pitch 0.5mm, IPC High Density)
footprint TQFP-PT64_M (Thin QFP, 64-Leads, Body 10x10mm, Pitch 0.5mm, IPC Low Density)
pins: 1 LCDBIAS2 (in), 2 LCDBIAS1 (in), 3 RG0/SEG30 (io), 4 RG1/TX2/CK2/SEG29 (io), 5 RG2/RX2/DT2/SEG28 (io), 6 RG3/SEG27 (io), 7 ~{MCLR}/VPP/RG5 (in), 8 RG4/SEG26 (io), 9 VSS (power), 10 VDD (power), 11 RF7/~{SS}/SEG25 (io), 12 RF6/AN11/SEG24 (io), 13 RF5/AN10/CVREF/SEG23 (io), 14 RF4/AN9/SEG22 (io), 15 RF3/AN8/SEG21 (io), 16 RF2/AN7/C1OUT/SEG20 (io), 17 RF1/AN6/C2OUT/SEG19 (io), 18 RF0/AN5/SEG18 (io), 19 AVDD (power), 20 AVSS (power), 21 RA3/AN3/VREF+/SEG17 (io), 22 RA2/AN2/VREF-/SEG16 (io), 23 RA1/AN1 (io), 24 RA0/AN0 (io), 25 VSS (power), 26 VDD (power), 27 RA5/AN4/HLVDIN/SEG15 (io), 28 RA4/T0CKI/SEG14 (io), 29 RC1/T1OSI/CCP2 (io), 30 RC0/T1OSO/T13CKI (io), 31 RC6/TX1/CK1 (io), 32 RC7/RX1/DT1 (io), 33 RC2/CCP1/SEG13 (io), 34 RC3/SCK/SCL (io), 35 RC4/SDI/SDA (io), 36 RC5/SDO/SEG12 (io), 37 RB7/KBI3/PGD (io), 38 VDD (power), 39 OSC1/CLKI/RA7 (io), 40 OSC2/CLKO/RA6 (io), 41 VSS (power), 42 RB6/KBI2/PGC (io), 43 RB5/KBI1 (io), 44 RB4/KBI0/SEG11 (io), 45 RB3/INT3/SEG10 (io), 46 RB2/INT2/SEG9 (io), 47 RB1/INT1/SEG8 (io), 48 RB0/INT0 (io), 49 RD7/SEG7 (io), 50 RD6/SEG6 (io), 51 RD5/SEG5 (io), 52 RD4/SEG4 (io), 53 RD3/SEG3 (io), 54 RD2/SEG2 (io), 55 RD1/SEG1 (io), 56 VSS (power), 57 VDD (power), 58 RD0/SEG0 (io), 59 RE7/CCP2/SEG31 (io), 60 RE6/COM3 (io), 61 RE5/COM2 (io), 62 RE4/COM1 (io), 63 COM0 (out), 64 LCDBIAS3 (in)

## PIC18F6490T-I/PT
designator U?
Flash Microcontroller with LCD Driver and nanoWatt Technology, 16K Flash, 64-Pin TQFP, Industrial Temperature Range, Tape and Reel; FirstPublished: 29-Jan-2009; DatasheetVersion: revC, Nov-2007; PackageVersion: revBB, Aug-2009; PackageReference: TQFP-PT64; Publisher: Altium Limited; PackageDescription: 64-Lead Thin Plastic Quad Flat Pack (PT) - 10x10x1mm Body, 2.00mm [TQFP]; Supplier 1: Digi-Key; Supplier Part Number 1: PIC18F6490T-I/PT-ND; Supplier 2: Newark; Supplier Part Number 2: 08J9647; Code_JEDEC: MS-026; ComponentLink1Description: Datasheet; ComponentLink1URL: http://ww1.microchip.com/downloads/en/DeviceDoc/39629c.pdf; ComponentLink2Description: Packaging Specification; ComponentLink2URL: http://www.microchip.com/stellent/groups/techpub_sg/documents/packagingspec/en012702.pdf; ComponentLink3Description: Microchip.com Home; ComponentLink3URL: http://www.microchip.com/
footprint TQFP-PT64_N (Thin QFP, 64-Leads, Body 10x10mm, Pitch 0.5mm, IPC Medium Density)
footprint TQFP-PT64_L (Thin QFP, 64-Leads, Body 10x10mm, Pitch 0.5mm, IPC High Density)
footprint TQFP-PT64_M (Thin QFP, 64-Leads, Body 10x10mm, Pitch 0.5mm, IPC Low Density)
pins: 1 LCDBIAS2 (in), 2 LCDBIAS1 (in), 3 RG0/SEG30 (io), 4 RG1/TX2/CK2/SEG29 (io), 5 RG2/RX2/DT2/SEG28 (io), 6 RG3/SEG27 (io), 7 ~{MCLR}/VPP/RG5 (in), 8 RG4/SEG26 (io), 9 VSS (power), 10 VDD (power), 11 RF7/~{SS}/SEG25 (io), 12 RF6/AN11/SEG24 (io), 13 RF5/AN10/CVREF/SEG23 (io), 14 RF4/AN9/SEG22 (io), 15 RF3/AN8/SEG21 (io), 16 RF2/AN7/C1OUT/SEG20 (io), 17 RF1/AN6/C2OUT/SEG19 (io), 18 RF0/AN5/SEG18 (io), 19 AVDD (power), 20 AVSS (power), 21 RA3/AN3/VREF+/SEG17 (io), 22 RA2/AN2/VREF-/SEG16 (io), 23 RA1/AN1 (io), 24 RA0/AN0 (io), 25 VSS (power), 26 VDD (power), 27 RA5/AN4/HLVDIN/SEG15 (io), 28 RA4/T0CKI/SEG14 (io), 29 RC1/T1OSI/CCP2 (io), 30 RC0/T1OSO/T13CKI (io), 31 RC6/TX1/CK1 (io), 32 RC7/RX1/DT1 (io), 33 RC2/CCP1/SEG13 (io), 34 RC3/SCK/SCL (io), 35 RC4/SDI/SDA (io), 36 RC5/SDO/SEG12 (io), 37 RB7/KBI3/PGD (io), 38 VDD (power), 39 OSC1/CLKI/RA7 (io), 40 OSC2/CLKO/RA6 (io), 41 VSS (power), 42 RB6/KBI2/PGC (io), 43 RB5/KBI1 (io), 44 RB4/KBI0/SEG11 (io), 45 RB3/INT3/SEG10 (io), 46 RB2/INT2/SEG9 (io), 47 RB1/INT1/SEG8 (io), 48 RB0/INT0 (io), 49 RD7/SEG7 (io), 50 RD6/SEG6 (io), 51 RD5/SEG5 (io), 52 RD4/SEG4 (io), 53 RD3/SEG3 (io), 54 RD2/SEG2 (io), 55 RD1/SEG1 (io), 56 VSS (power), 57 VDD (power), 58 RD0/SEG0 (io), 59 RE7/CCP2/SEG31 (io), 60 RE6/COM3 (io), 61 RE5/COM2 (io), 62 RE4/COM1 (io), 63 COM0 (out), 64 LCDBIAS3 (in)

## PIC18F6493-I/PT
designator U?
High Performance, Flash Microcontroller with LCD Driver, 12-Bit ADC and nanoWatt Technology, 16K Flash, 64-Pin TQFP, Industrial Temperature Range; FirstPublished: 29-Jan-2009; LatestRevisionDate: 02-Dec-2009; LatestRevisionNote: Updated to datasheet revision B, Oct-2009; DatasheetVersion: revB, Oct-2009; PackageVersion: revBB, Aug-2009; PackageReference: TQFP-PT64; Publisher: Altium Limited; PackageDescription: 64-Lead Thin Plastic Quad Flat Pack (PT) - 10x10x1mm Body, 2.00mm [TQFP]; Supplier 1: Digi-Key; Supplier Part Number 1: PIC18F6493-I/PT-ND; Supplier 2: Farnell; Supplier Part Number 2: 1548420; Supplier 3: Newark; Supplier Part Number 3: 54M5031; Code_JEDEC: MS-026; ComponentLink1Description: Datasheet; ComponentLink1URL: http://ww1.microchip.com/downloads/en/DeviceDoc/39896b.pdf; ComponentLink2Description: Packaging Specification; ComponentLink2URL: http://www.microchip.com/stellent/groups/techpub_sg/documents/packagingspec/en012702.pdf; ComponentLink3Description: Microchip.com Home; ComponentLink3URL: http://www.microchip.com/
footprint TQFP-PT64_N (Thin QFP, 64-Leads, Body 10x10mm, Pitch 0.5mm, IPC Medium Density)
footprint TQFP-PT64_L (Thin QFP, 64-Leads, Body 10x10mm, Pitch 0.5mm, IPC High Density)
footprint TQFP-PT64_M (Thin QFP, 64-Leads, Body 10x10mm, Pitch 0.5mm, IPC Low Density)
pins: 1 LCDBIAS2 (in), 2 LCDBIAS1 (in), 3 RG0/SEG30 (io), 4 RG1/TX2/CK2/SEG29 (io), 5 RG2/RX2/DT2/SEG28 (io), 6 RG3/SEG27 (io), 7 ~{MCLR}/VPP/RG5 (in), 8 RG4/SEG26 (io), 9 VSS (power), 10 VDD (power), 11 RF7/~{SS}/SEG25 (io), 12 RF6/AN11/SEG24 (io), 13 RF5/AN10/CVREF/SEG23 (io), 14 RF4/AN9/SEG22 (io), 15 RF3/AN8/SEG21 (io), 16 RF2/AN7/C1OUT/SEG20 (io), 17 RF1/AN6/C2OUT/SEG19 (io), 18 RF0/AN5/SEG18 (io), 19 AVDD (power), 20 AVSS (power), 21 RA3/AN3/VREF+/SEG17 (io), 22 RA2/AN2/VREF-/SEG16 (io), 23 RA1/AN1 (io), 24 RA0/AN0 (io), 25 VSS (power), 26 VDD (power), 27 RA5/AN4/HLVDIN/SEG15 (io), 28 RA4/T0CKI/SEG14 (io), 29 RC1/T1OSI/CCP2 (io), 30 RC0/T1OSO/T13CKI (io), 31 RC6/TX1/CK1 (io), 32 RC7/RX1/DT1 (io), 33 RC2/CCP1/SEG13 (io), 34 RC3/SCK/SCL (io), 35 RC4/SDI/SDA (io), 36 RC5/SDO/SEG12 (io), 37 RB7/KBI3/PGD (io), 38 VDD (power), 39 OSC1/CLKI/RA7 (io), 40 OSC2/CLKO/RA6 (io), 41 VSS (power), 42 RB6/KBI2/PGC (io), 43 RB5/KBI1 (io), 44 RB4/KBI0/SEG11 (io), 45 RB3/INT3/SEG10 (io), 46 RB2/INT2/SEG9 (io), 47 RB1/INT1/SEG8 (io), 48 RB0/INT0 (io), 49 RD7/SEG7 (io), 50 RD6/SEG6 (io), 51 RD5/SEG5 (io), 52 RD4/SEG4 (io), 53 RD3/SEG3 (io), 54 RD2/SEG2 (io), 55 RD1/SEG1 (io), 56 VSS (power), 57 VDD (power), 58 RD0/SEG0 (io), 59 RE7/CCP2/SEG31 (io), 60 RE6/COM3 (io), 61 RE5/COM2 (io), 62 RE4/COM1 (io), 63 COM0 (out), 64 LCDBIAS3 (in)

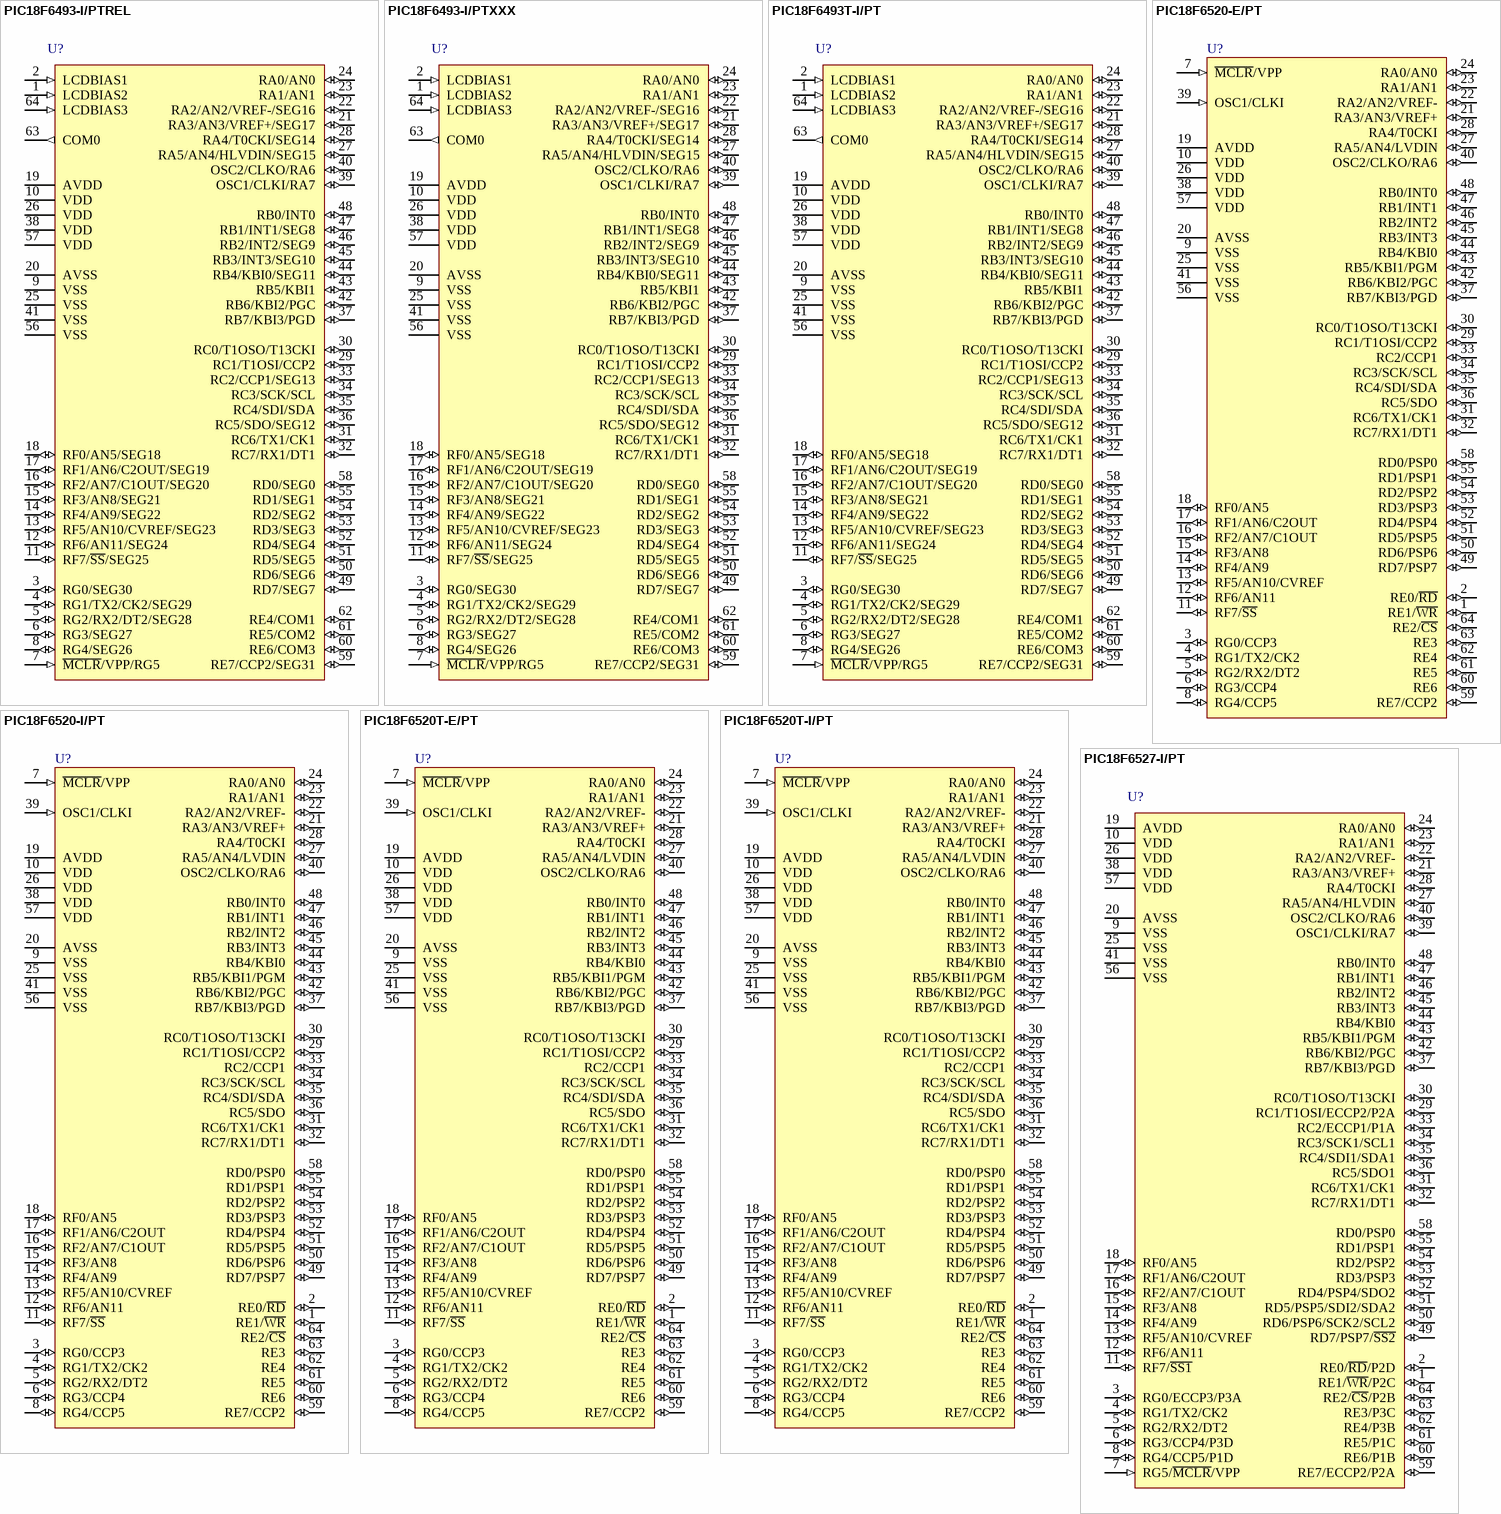
[diagram p85: symbols PIC18F6493-I/PTREL to PIC18F6527-I/PT]

## PIC18F6493-I/PTREL
designator U?
High Performance, Flash Microcontroller with LCD Driver, 12-Bit ADC and nanoWatt Technology, 16K Flash, 64-Pin TQFP, Industrial Temperature Range; ComponentAvailability: Unknown. Contact manufacturer to determine status.; FirstPublished: 29-Jan-2009; LatestRevisionDate: 02-Dec-2009; LatestRevisionNote: Updated to datasheet revision B, Oct-2009; DatasheetVersion: revB, Oct-2009; PackageVersion: revBB, Aug-2009; PackageReference: TQFP-PT64; Publisher: Altium Limited; PackageDescription: 64-Lead Thin Plastic Quad Flat Pack (PT) - 10x10x1mm Body, 2.00mm [TQFP]; Code_JEDEC: MS-026; ComponentLink1Description: Datasheet; ComponentLink1URL: http://ww1.microchip.com/downloads/en/DeviceDoc/39896b.pdf; ComponentLink2Description: Packaging Specification; ComponentLink2URL: http://www.microchip.com/stellent/groups/techpub_sg/documents/packagingspec/en012702.pdf; ComponentLink3Description: Microchip.com Home; ComponentLink3URL: http://www.microchip.com/
footprint TQFP-PT64_N (Thin QFP, 64-Leads, Body 10x10mm, Pitch 0.5mm, IPC Medium Density)
footprint TQFP-PT64_L (Thin QFP, 64-Leads, Body 10x10mm, Pitch 0.5mm, IPC High Density)
footprint TQFP-PT64_M (Thin QFP, 64-Leads, Body 10x10mm, Pitch 0.5mm, IPC Low Density)
pins: 1 LCDBIAS2 (in), 2 LCDBIAS1 (in), 3 RG0/SEG30 (io), 4 RG1/TX2/CK2/SEG29 (io), 5 RG2/RX2/DT2/SEG28 (io), 6 RG3/SEG27 (io), 7 ~{MCLR}/VPP/RG5 (in), 8 RG4/SEG26 (io), 9 VSS (power), 10 VDD (power), 11 RF7/~{SS}/SEG25 (io), 12 RF6/AN11/SEG24 (io), 13 RF5/AN10/CVREF/SEG23 (io), 14 RF4/AN9/SEG22 (io), 15 RF3/AN8/SEG21 (io), 16 RF2/AN7/C1OUT/SEG20 (io), 17 RF1/AN6/C2OUT/SEG19 (io), 18 RF0/AN5/SEG18 (io), 19 AVDD (power), 20 AVSS (power), 21 RA3/AN3/VREF+/SEG17 (io), 22 RA2/AN2/VREF-/SEG16 (io), 23 RA1/AN1 (io), 24 RA0/AN0 (io), 25 VSS (power), 26 VDD (power), 27 RA5/AN4/HLVDIN/SEG15 (io), 28 RA4/T0CKI/SEG14 (io), 29 RC1/T1OSI/CCP2 (io), 30 RC0/T1OSO/T13CKI (io), 31 RC6/TX1/CK1 (io), 32 RC7/RX1/DT1 (io), 33 RC2/CCP1/SEG13 (io), 34 RC3/SCK/SCL (io), 35 RC4/SDI/SDA (io), 36 RC5/SDO/SEG12 (io), 37 RB7/KBI3/PGD (io), 38 VDD (power), 39 OSC1/CLKI/RA7 (io), 40 OSC2/CLKO/RA6 (io), 41 VSS (power), 42 RB6/KBI2/PGC (io), 43 RB5/KBI1 (io), 44 RB4/KBI0/SEG11 (io), 45 RB3/INT3/SEG10 (io), 46 RB2/INT2/SEG9 (io), 47 RB1/INT1/SEG8 (io), 48 RB0/INT0 (io), 49 RD7/SEG7 (io), 50 RD6/SEG6 (io), 51 RD5/SEG5 (io), 52 RD4/SEG4 (io), 53 RD3/SEG3 (io), 54 RD2/SEG2 (io), 55 RD1/SEG1 (io), 56 VSS (power), 57 VDD (power), 58 RD0/SEG0 (io), 59 RE7/CCP2/SEG31 (io), 60 RE6/COM3 (io), 61 RE5/COM2 (io), 62 RE4/COM1 (io), 63 COM0 (out), 64 LCDBIAS3 (in)

## PIC18F6493-I/PTXXX
designator U?
High Performance, Flash Microcontroller with LCD Driver, 12-Bit ADC and nanoWatt Technology, 16K Flash, 64-Pin TQFP, Industrial Temperature Range; ComponentAvailability: Unknown. Contact manufacturer to determine status.; FirstPublished: 29-Jan-2009; LatestRevisionDate: 02-Dec-2009; LatestRevisionNote: Updated to datasheet revision B, Oct-2009; DatasheetVersion: revB, Oct-2009; PackageVersion: revBB, Aug-2009; PackageReference: TQFP-PT64; Publisher: Altium Limited; PackageDescription: 64-Lead Thin Plastic Quad Flat Pack (PT) - 10x10x1mm Body, 2.00mm [TQFP]; Code_JEDEC: MS-026; ComponentLink1Description: Datasheet; ComponentLink1URL: http://ww1.microchip.com/downloads/en/DeviceDoc/39896b.pdf; ComponentLink2Description: Packaging Specification; ComponentLink2URL: http://www.microchip.com/stellent/groups/techpub_sg/documents/packagingspec/en012702.pdf; ComponentLink3Description: Microchip.com Home; ComponentLink3URL: http://www.microchip.com/
footprint TQFP-PT64_N (Thin QFP, 64-Leads, Body 10x10mm, Pitch 0.5mm, IPC Medium Density)
footprint TQFP-PT64_L (Thin QFP, 64-Leads, Body 10x10mm, Pitch 0.5mm, IPC High Density)
footprint TQFP-PT64_M (Thin QFP, 64-Leads, Body 10x10mm, Pitch 0.5mm, IPC Low Density)
pins: 1 LCDBIAS2 (in), 2 LCDBIAS1 (in), 3 RG0/SEG30 (io), 4 RG1/TX2/CK2/SEG29 (io), 5 RG2/RX2/DT2/SEG28 (io), 6 RG3/SEG27 (io), 7 ~{MCLR}/VPP/RG5 (in), 8 RG4/SEG26 (io), 9 VSS (power), 10 VDD (power), 11 RF7/~{SS}/SEG25 (io), 12 RF6/AN11/SEG24 (io), 13 RF5/AN10/CVREF/SEG23 (io), 14 RF4/AN9/SEG22 (io), 15 RF3/AN8/SEG21 (io), 16 RF2/AN7/C1OUT/SEG20 (io), 17 RF1/AN6/C2OUT/SEG19 (io), 18 RF0/AN5/SEG18 (io), 19 AVDD (power), 20 AVSS (power), 21 RA3/AN3/VREF+/SEG17 (io), 22 RA2/AN2/VREF-/SEG16 (io), 23 RA1/AN1 (io), 24 RA0/AN0 (io), 25 VSS (power), 26 VDD (power), 27 RA5/AN4/HLVDIN/SEG15 (io), 28 RA4/T0CKI/SEG14 (io), 29 RC1/T1OSI/CCP2 (io), 30 RC0/T1OSO/T13CKI (io), 31 RC6/TX1/CK1 (io), 32 RC7/RX1/DT1 (io), 33 RC2/CCP1/SEG13 (io), 34 RC3/SCK/SCL (io), 35 RC4/SDI/SDA (io), 36 RC5/SDO/SEG12 (io), 37 RB7/KBI3/PGD (io), 38 VDD (power), 39 OSC1/CLKI/RA7 (io), 40 OSC2/CLKO/RA6 (io), 41 VSS (power), 42 RB6/KBI2/PGC (io), 43 RB5/KBI1 (io), 44 RB4/KBI0/SEG11 (io), 45 RB3/INT3/SEG10 (io), 46 RB2/INT2/SEG9 (io), 47 RB1/INT1/SEG8 (io), 48 RB0/INT0 (io), 49 RD7/SEG7 (io), 50 RD6/SEG6 (io), 51 RD5/SEG5 (io), 52 RD4/SEG4 (io), 53 RD3/SEG3 (io), 54 RD2/SEG2 (io), 55 RD1/SEG1 (io), 56 VSS (power), 57 VDD (power), 58 RD0/SEG0 (io), 59 RE7/CCP2/SEG31 (io), 60 RE6/COM3 (io), 61 RE5/COM2 (io), 62 RE4/COM1 (io), 63 COM0 (out), 64 LCDBIAS3 (in)

## PIC18F6493T-I/PT
designator U?
High Performance, Flash Microcontroller with LCD Driver, 12-Bit ADC and nanoWatt Technology, 16K Flash, 64-Pin TQFP, Industrial Temperature Range, Tape and Reel; FirstPublished: 29-Jan-2009; LatestRevisionDate: 02-Dec-2009; LatestRevisionNote: Updated to datasheet revision B, Oct-2009; DatasheetVersion: revB, Oct-2009; PackageVersion: revBB, Aug-2009; PackageReference: TQFP-PT64; Publisher: Altium Limited; PackageDescription: 64-Lead Thin Plastic Quad Flat Pack (PT) - 10x10x1mm Body, 2.00mm [TQFP]; Supplier 1: Digi-Key; Supplier Part Number 1: PIC18F6493T-I/PTTR-ND; Supplier 2: Newark; Supplier Part Number 2: 54M5032; Code_JEDEC: MS-026; ComponentLink1Description: Datasheet; ComponentLink1URL: http://ww1.microchip.com/downloads/en/DeviceDoc/39896b.pdf; ComponentLink2Description: Packaging Specification; ComponentLink2URL: http://www.microchip.com/stellent/groups/techpub_sg/documents/packagingspec/en012702.pdf; ComponentLink3Description: Microchip.com Home; ComponentLink3URL: http://www.microchip.com/
footprint TQFP-PT64_N (Thin QFP, 64-Leads, Body 10x10mm, Pitch 0.5mm, IPC Medium Density)
footprint TQFP-PT64_L (Thin QFP, 64-Leads, Body 10x10mm, Pitch 0.5mm, IPC High Density)
footprint TQFP-PT64_M (Thin QFP, 64-Leads, Body 10x10mm, Pitch 0.5mm, IPC Low Density)
pins: 1 LCDBIAS2 (in), 2 LCDBIAS1 (in), 3 RG0/SEG30 (io), 4 RG1/TX2/CK2/SEG29 (io), 5 RG2/RX2/DT2/SEG28 (io), 6 RG3/SEG27 (io), 7 ~{MCLR}/VPP/RG5 (in), 8 RG4/SEG26 (io), 9 VSS (power), 10 VDD (power), 11 RF7/~{SS}/SEG25 (io), 12 RF6/AN11/SEG24 (io), 13 RF5/AN10/CVREF/SEG23 (io), 14 RF4/AN9/SEG22 (io), 15 RF3/AN8/SEG21 (io), 16 RF2/AN7/C1OUT/SEG20 (io), 17 RF1/AN6/C2OUT/SEG19 (io), 18 RF0/AN5/SEG18 (io), 19 AVDD (power), 20 AVSS (power), 21 RA3/AN3/VREF+/SEG17 (io), 22 RA2/AN2/VREF-/SEG16 (io), 23 RA1/AN1 (io), 24 RA0/AN0 (io), 25 VSS (power), 26 VDD (power), 27 RA5/AN4/HLVDIN/SEG15 (io), 28 RA4/T0CKI/SEG14 (io), 29 RC1/T1OSI/CCP2 (io), 30 RC0/T1OSO/T13CKI (io), 31 RC6/TX1/CK1 (io), 32 RC7/RX1/DT1 (io), 33 RC2/CCP1/SEG13 (io), 34 RC3/SCK/SCL (io), 35 RC4/SDI/SDA (io), 36 RC5/SDO/SEG12 (io), 37 RB7/KBI3/PGD (io), 38 VDD (power), 39 OSC1/CLKI/RA7 (io), 40 OSC2/CLKO/RA6 (io), 41 VSS (power), 42 RB6/KBI2/PGC (io), 43 RB5/KBI1 (io), 44 RB4/KBI0/SEG11 (io), 45 RB3/INT3/SEG10 (io), 46 RB2/INT2/SEG9 (io), 47 RB1/INT1/SEG8 (io), 48 RB0/INT0 (io), 49 RD7/SEG7 (io), 50 RD6/SEG6 (io), 51 RD5/SEG5 (io), 52 RD4/SEG4 (io), 53 RD3/SEG3 (io), 54 RD2/SEG2 (io), 55 RD1/SEG1 (io), 56 VSS (power), 57 VDD (power), 58 RD0/SEG0 (io), 59 RE7/CCP2/SEG31 (io), 60 RE6/COM3 (io), 61 RE5/COM2 (io), 62 RE4/COM1 (io), 63 COM0 (out), 64 LCDBIAS3 (in)

## PIC18F6520-E/PT
designator U?
High Performance, 32K Enhanced Flash Microcontroller with A/D, 64-Pin TQFP, Extended Temperature; FirstPublished: 11-Oct-2004; LatestRevisionDate: 29-Jan-2009; LatestRevisionNote: Sch. layout revised. 3D Model Removed.; DatasheetVersion: revB, Oct-2005; PackageVersion: revBB, Aug-2009; PackageReference: TQFP-PT64; Publisher: Altium Limited; PackageDescription: 64-Lead Thin Plastic Quad Flat Pack (PT) - 10x10x1mm Body, 2.00mm [TQFP]; Supplier 1: Digi-Key; Supplier Part Number 1: PIC18F6520-E/PT-ND; Supplier 2: Newark; Supplier Part Number 2: 68H9483; Code_JEDEC: MS-026; ComponentLink1Description: Datasheet; ComponentLink1URL: http://ww1.microchip.com/downloads/en/DeviceDoc/39609b.pdf; ComponentLink2Description: Packaging Specification; ComponentLink2URL: http://www.microchip.com/stellent/groups/techpub_sg/documents/packagingspec/en012702.pdf; ComponentLink3Description: Microchip.com Home; ComponentLink3URL: http://www.microchip.com/
footprint TQFP-PT64_N (Thin QFP, 64-Leads, Body 10x10mm, Pitch 0.5mm, IPC Medium Density)
footprint TQFP-PT64_L (Thin QFP, 64-Leads, Body 10x10mm, Pitch 0.5mm, IPC High Density)
footprint TQFP-PT64_M (Thin QFP, 64-Leads, Body 10x10mm, Pitch 0.5mm, IPC Low Density)
pins: 1 RE1/~{WR} (io), 2 RE0/~{RD} (io), 3 RG0/CCP3 (io), 4 RG1/TX2/CK2 (io), 5 RG2/RX2/DT2 (io), 6 RG3/CCP4 (io), 7 ~{MCLR}/VPP (in), 8 RG4/CCP5 (io), 9 VSS (power), 10 VDD (power), 11 RF7/~{SS} (io), 12 RF6/AN11 (io), 13 RF5/AN10/CVREF (io), 14 RF4/AN9 (io), 15 RF3/AN8 (io), 16 RF2/AN7/C1OUT (io), 17 RF1/AN6/C2OUT (io), 18 RF0/AN5 (io), 19 AVDD (power), 20 AVSS (power), 21 RA3/AN3/VREF+ (io), 22 RA2/AN2/VREF- (io), 23 RA1/AN1 (io), 24 RA0/AN0 (io), 25 VSS (power), 26 VDD (power), 27 RA5/AN4/LVDIN (io), 28 RA4/T0CKI (io), 29 RC1/T1OSI/CCP2 (io), 30 RC0/T1OSO/T13CKI (io), 31 RC6/TX1/CK1 (io), 32 RC7/RX1/DT1 (io), 33 RC2/CCP1 (io), 34 RC3/SCK/SCL (io), 35 RC4/SDI/SDA (io), 36 RC5/SDO (io), 37 RB7/KBI3/PGD (io), 38 VDD (power), 39 OSC1/CLKI (in), 40 OSC2/CLKO/RA6 (io), 41 VSS (power), 42 RB6/KBI2/PGC (io), 43 RB5/KBI1/PGM (io), 44 RB4/KBI0 (io), 45 RB3/INT3 (io), 46 RB2/INT2 (io), 47 RB1/INT1 (io), 48 RB0/INT0 (io), 49 RD7/PSP7 (io), 50 RD6/PSP6 (io), 51 RD5/PSP5 (io), 52 RD4/PSP4 (io), 53 RD3/PSP3 (io), 54 RD2/PSP2 (io), 55 RD1/PSP1 (io), 56 VSS (power), 57 VDD (power), 58 RD0/PSP0 (io), 59 RE7/CCP2 (io), 60 RE6 (io), 61 RE5 (io), 62 RE4 (io), 63 RE3 (io), 64 RE2/~{CS} (io)